# Altium footprint library PcbLib1.PcbLib: 14 footprints
Each footprint in its own frame and in the unit in brackets; x right, y up, seen from the top. Pads: shape width x height; smd on the part's side, far side on the other; paste and mask are expansions set on the pad; w line width, h text height; cw(c..) or ccw(c..) is an arc to the next point about the centre after c.
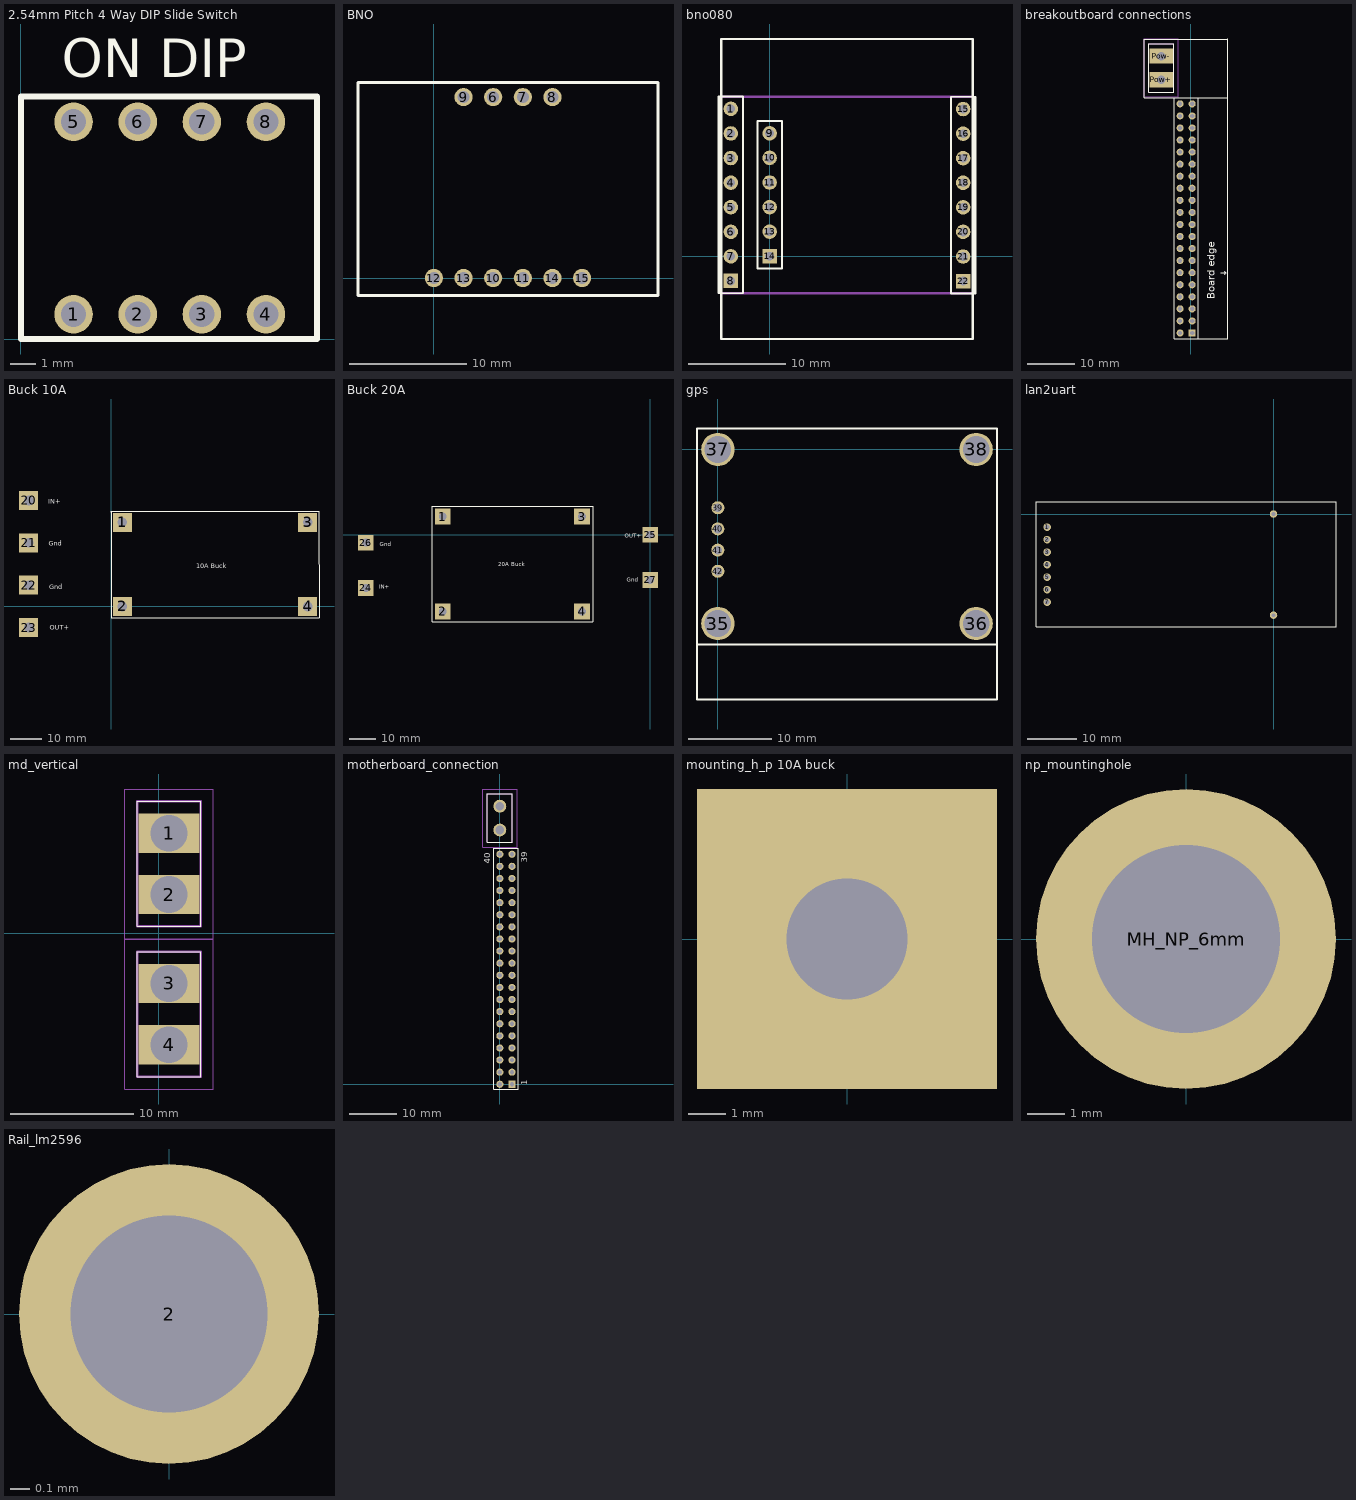
[diagram p0: the footprints below, top view; thin cyan lines are the x and y axes]

## 2.54mm Pitch 4 Way DIP Slide Switch [mm]
pads (8):
  round 1.524 hole 1: 1(2.08,0.98) 2(4.62,0.98) 3(7.16,0.98) 4(9.7,0.98) 5(2.08,8.6) 6(4.62,8.6) 7(7.16,8.6) 8(9.7,8.6)
Top Overlay:
  lines w0.254: 0,0 11.72,0 11.72,9.6 0,9.6 0,0
  text "ON DIP" at 1.604,10.354 h1.52

## BNO [mm]
pads (10):
  round 1.56 hole 1.04: 6(5.08,15.5) 7(7.62,15.5) 8(10.16,15.5) 9(2.54,15.5) 10(5.08,0) 11(7.62,0) 12(0,0) 13(2.54,0) 14(10.16,0) 15(12.7,0)
Top Overlay:
  lines w0.254: -6.5,-1.5 -6.5,16.75 19.2,16.75 19.2,-1.5 -6.5,-1.5

## bno080 [mm]
pads (22):
  round 1.5 hole 0.9: 1(-4,15.24) 2(-4,12.7) 3(-4,10.16) 4(-4,7.62) 5(-4,5.08) 6(-4,2.54) 7(-4,0) 9(0,12.71) 10(0,10.17) 11(0,7.63) 12(0,5.09) 13(0,2.55) 15(19.998,15.224) 16(19.998,12.684) 17(19.998,10.144) 18(19.998,7.604) 19(19.998,5.064) 20(19.998,2.524) 21(19.998,-0.016)
  rect 1.5x1.5 hole 0.9: 8(-4,-2.54) 14(0,0.01) 22(19.998,-2.556)
Top Overlay:
  lines w0.2: -5.27,-3.81 -2.73,-3.81 -2.73,16.51 -5.27,16.51 -5.27,-3.81 ; -1.27,-1.26 1.27,-1.26 1.27,13.98 -1.27,13.98 -1.27,-1.26 ; 18.728,-3.826 21.268,-3.826 21.268,16.494 18.728,16.494 18.728,-3.826
  lines w0.254: -5.16,-3.65 -5.16,16.21 ; -5.16,16.35 -5.16,16.21 ; -5,16.51 -5,16.37 -5.16,16.21 ; 21,16.494 21.016,16.494 21.15,16.36 21.15,-3.676 ; -5,-8.54 -5,22.46 21,22.46 21,-8.54 -5,-8.54
Mechanical 15:
  lines w0.254: -5,-3.81 20.87,-3.81 ; -5,16.48 -5,16.51 21.05,16.51

## breakoutboard connections [mm]
pads (42):
  rect 1.5x1.5 hole 0.9: 1(0.29,5.1)
  round 1.5 hole 0.9: 2(-2.25,5.1) 3(0.29,7.64) 4(-2.25,7.64) 5(0.29,10.18) 6(-2.25,10.18) 7(0.29,12.72) 8(-2.25,12.72) 9(0.29,15.26) 10(-2.25,15.26) 11(0.29,17.8) 12(-2.25,17.8) 13(0.29,20.34) 14(-2.25,20.34) 15(0.29,22.88) 16(-2.25,22.88) 17(0.29,25.42) 18(-2.25,25.42) 19(0.29,27.96) 20(-2.25,27.96) 21(0.29,30.5) 22(-2.25,30.5) 23(0.29,33.04) 24(-2.25,33.04) 25(0.29,35.58) 26(-2.25,35.58) 27(0.29,38.12) 28(-2.25,38.12) 29(0.29,40.66) 30(-2.25,40.66) 31(0.29,43.2) 32(-2.25,43.2) 33(0.29,45.74) 34(-2.25,45.74) 35(0.29,48.28) 36(-2.25,48.28) 37(0.29,50.82) 38(-2.25,50.82) 39(0.29,53.36) 40(-2.25,53.36)
  rect 5x3.2 hole 1.8: Pow+(-6.198,58.421) Pow-(-6.198,63.421)
Top Overlay:
  lines w0.1: -8.798,55.821 -3.598,55.821 -3.598,66.021 -8.798,66.021 -8.798,55.821
  lines w0.2: -3.52,3.83 -3.52,54.62 1.56,54.62 1.56,3.83 -3.52,3.83
  lines w0.254: -3.5,54.6 -9.798,54.6 -9.798,67.011 7.79,67.011 ; 1.55,3.86 7.72,3.86 7.79,3.93 7.79,54.27 7.79,67.021 ; 1.55,54.6 7.79,54.6 ; 6.34,17.78 7.44,17.78 7.42,17.78 ; 7.09,18.11 7.42,17.78 ; 7.11,17.45 7.42,17.76 7.42,17.77 7.42,17.78
  text "Board edge" at 5.078,12.184 h1.52
Mechanical 13:
  lines w0.2: -8.798,55.821 -3.598,55.821 -3.598,66.021 -8.798,66.021 -8.798,55.821
Mechanical 15:
  lines w0.1: -9.798,54.821 -2.598,54.821 -2.598,67.021 -9.798,67.021 -9.798,54.821
3D body "XT30PB.stp": height 5.3, standoff 0.1, extent -7,55.821 5.7,66.021

## Buck 10A [mm]
pads (8):
  rect 6x6 hole 3 unplated: 1(3.556,26.416) 2(3.556,0) 3(61.722,26.416) 4(61.722,0)
  rect 6x6 hole 3: 20(-25.908,33.274) 21(-25.908,19.981) 22(-25.908,6.689) 23(-25.908,-6.604)
Top Overlay:
  lines w0.254: 0,-3.556 0,29.591 0,29.972 65.278,29.972 65.278,-3.556 0,-3.556
  text "IN+" at -19.685,32.258 h1.52
  text "Gnd" at -19.558,19.05 h1.52
  text "OUT+" at -19.304,-7.239 h1.52
  text "Gnd" at -19.431,5.461 h1.52
  text "10A Buck" at 26.797,12.065 h1.52

## Buck 20A [mm]
pads (8):
  rect 6x6 hole 3 unplated: 1(-79.065,6.914) 2(-79.065,-29.266) 3(-25.945,6.914) 4(-25.945,-29.266)
  rect 6x6 hole 3: 24(-108.385,-20.32) 25(0,0) 26(-108.385,-3.048) 27(0,-17.272)
Top Overlay:
  lines w0.254: -83.112,-33.274 -83.112,10.16 -83.112,10.922 -21.898,10.922 -21.898,-33.274 -83.112,-33.274
  text "Gnd" at -8.89,-18.034 h1.52
  text "OUT+" at -9.706,-1.143 h1.52
  text "20A Buck" at -57.839,-12.065 h1.52
  text "IN+" at -103.305,-20.701 h1.52
  text "Gnd" at -103.051,-4.445 h1.52

## gps [mm]
pads (8):
  round 4 hole 3.2: 35(0,-20.9) 36(31,-20.9) 37(0,0) 38(31,0)
  round 1.56 hole 1.04: 39(0,-7) 40(0,-9.54) 41(0,-12.08) 42(0,-14.62)
Top Overlay:
  lines w0.254: -2.5,-23.4 33.5,-23.4 ; -2.5,-23.4 -2.5,2.5 33.5,2.5 33.5,-23.4 ; -2.5,-23.4 -2.5,-30 33.5,-30 33.5,-23.4

## lan2uart [mm]
pads (9):
  round 1.56 hole 1.04: 1(-46,-2.664) 2(-46,-5.204) 3(-46,-7.744) 4(-46,-10.284) 5(-46,-12.824) 6(-46,-15.364) 7(-46,-17.904)
  round 1.524 hole 0.762: 16(0,0) 17(0,-20.568)
Top Overlay:
  lines w0.254: -48.26,-22.86 12.7,-22.86 12.7,2.54 -48.26,2.54 -48.26,-22.86

## md_vertical [mm]
pads (4):
  rect 5x3.2 hole 3: 1(0.853,8.174) 2(0.853,3.174) 3(0.853,-4.076) 4(0.853,-9.076)
Top Overlay:
  lines w0.1: -1.747,-11.676 -1.747,-1.476 3.453,-1.476 3.453,-11.676 -1.747,-11.676 ; -1.747,0.574 -1.747,10.774 3.453,10.774 3.453,0.574 -1.747,0.574
Mechanical 13:
  lines w0.2: -1.747,-11.676 -1.747,-1.476 3.453,-1.476 3.453,-11.676 -1.747,-11.676 ; -1.747,0.574 -1.747,10.774 3.453,10.774 3.453,0.574 -1.747,0.574
Mechanical 15:
  lines w0.1: -2.747,-12.676 -2.747,-0.476 4.453,-0.476 4.453,-12.676 -2.747,-12.676 ; -2.747,-0.426 -2.747,11.774 4.453,11.774 4.453,-0.426 -2.747,-0.426
3D body "XT30PB.stp": height 10.66, standoff -2.04, extent -1.747,-11.676 3.453,-1.476
3D body "XT30PB.stp": height 10.66, standoff -2.04, extent -1.747,0.574 3.453,10.774

## motherboard_connection [mm]
pads (42):
  rect 1.5x1.5 hole 0.9: 1(2.54,0)
  round 1.5 hole 0.9: 2(0,0) 3(2.54,2.54) 4(0,2.54) 5(2.54,5.08) 6(0,5.08) 7(2.54,7.62) 8(0,7.62) 9(2.54,10.16) 10(0,10.16) 11(2.54,12.7) 12(0,12.7) 13(2.54,15.24) 14(0,15.24) 15(2.54,17.78) 16(0,17.78) 17(2.54,20.32) 18(0,20.32) 19(2.54,22.86) 20(0,22.86) 21(2.54,25.4) 22(0,25.4) 23(2.54,27.94) 24(0,27.94) 25(2.54,30.48) 26(0,30.48) 27(2.54,33.02) 28(0,33.02) 29(2.54,35.56) 30(0,35.56) 31(2.54,38.1) 32(0,38.1) 33(2.54,40.64) 34(0,40.64) 35(2.54,43.18) 36(0,43.18) 37(2.54,45.72) 38(0,45.72) 39(2.54,48.26) 40(0,48.26)
  round 2.7 hole 1.8: pow+(0,53.34) pow-(0,58.34)
Top Overlay:
  lines w0.1: -2.6,50.74 -2.6,60.94 2.6,60.94 2.6,50.74 -2.6,50.74
  lines w0.2: -1.27,-0.99 -1.27,49.53 3.81,49.53 3.81,-0.99 -1.27,-0.99
  text "40" at -2,46.26 h1.27
  text "39" at 5.75,46.51 h1.27
  text "1" at 5.75,-0.25 h1.27
Mechanical 13:
  lines w0.2: -2.6,50.74 -2.6,60.94 2.6,60.94 2.6,50.74 -2.6,50.74
Mechanical 15:
  lines w0.1: -3.6,49.74 -3.6,61.94 3.6,61.94 3.6,49.74 -3.6,49.74
3D body "XT30PB.stp": height 10.66, standoff -2.04, extent -2.6,50.74 2.6,60.94

## mounting_h_p 10A buck [mm]
pads (1):
  rect 8x8 hole 3.22 mask+0.102: ""(0,0)

## np_mountinghole [mm]
pads (1):
  round 8 hole 5 unplated: MH_NP_6mm(0,0)

## Rail_lm2596 [mil]
pads (1):
  round 60 hole 39.37: 2(0,0)

## rtk [mm]